# Altium footprint library 1_to_5_Pin.PcbLib: 133 footprints (part 9 of 9)
Each footprint in its own frame and in the unit in brackets; x right, y up, seen from the top. Pads: shape width x height; smd on the part's side, far side on the other; paste and mask are expansions set on the pad; w line width, h text height; cw(c..) or ccw(c..) is an arc to the next point about the centre after c.
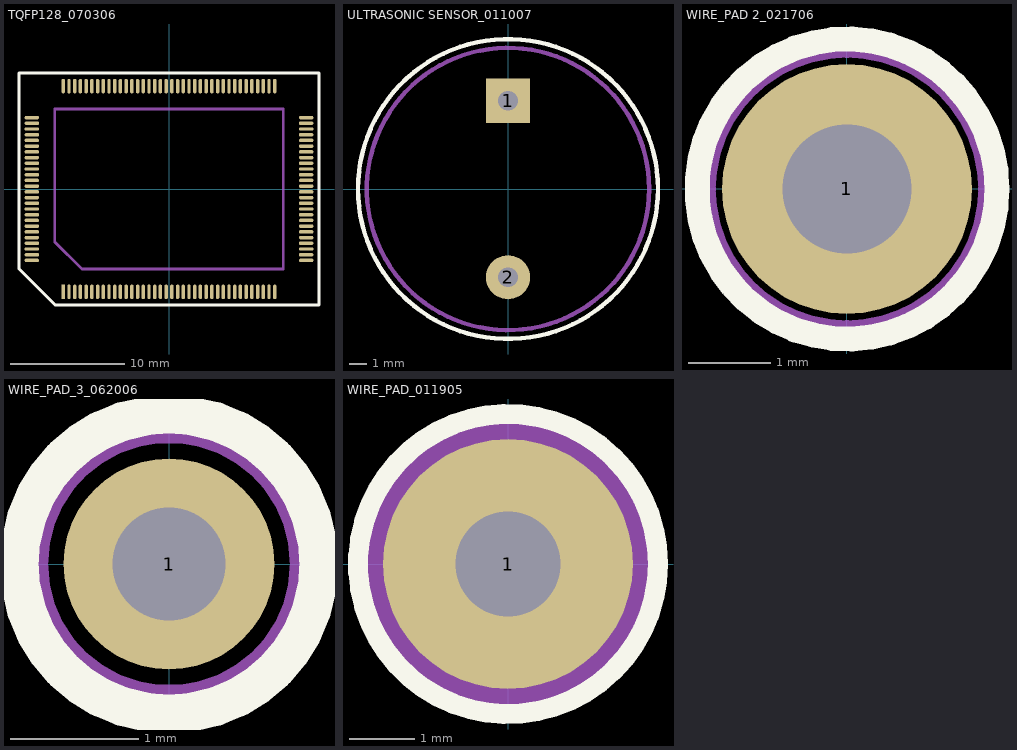
[diagram p8: the footprints below, top view; thin cyan lines are the x and y axes]

## TQFP128_070306 [mm] "SMT FP"
height 1.2
pads (128):
  rect 0.305x1.27 smd mask+0.038: 1(-9.25,-9)
  oval 0.305x1.27 smd mask+0.038: 2(-8.75,-9) 3(-8.25,-9) 4(-7.75,-9) 5(-7.25,-9) 6(-6.75,-9) 7(-6.25,-9) 8(-5.75,-9) 9(-5.25,-9) 10(-4.75,-9) 11(-4.25,-9) 12(-3.75,-9) 13(-3.25,-9) 14(-2.75,-9) 15(-2.25,-9) 16(-1.75,-9) 17(-1.25,-9) 18(-0.75,-9) 19(-0.25,-9) 20(0.25,-9) 21(0.75,-9) 22(1.25,-9) 23(1.75,-9) 24(2.25,-9) 25(2.75,-9) 26(3.25,-9) 27(3.75,-9) 28(4.25,-9) 29(4.75,-9) 30(5.25,-9) 31(5.75,-9) 32(6.25,-9) 33(6.75,-9) 34(7.25,-9) 35(7.75,-9) 36(8.25,-9) 37(8.75,-9) 38(9.25,-9) 65(9.25,9) 66(8.75,9) 67(8.25,9) 68(7.75,9) 69(7.25,9) 70(6.75,9) 71(6.25,9) 72(5.75,9) 73(5.25,9) 74(4.75,9) 75(4.25,9) 76(3.75,9) 77(3.25,9) 78(2.75,9) 79(2.25,9) 80(1.75,9) 81(1.25,9) 82(0.75,9) 83(0.25,9) 84(-0.25,9) 85(-0.75,9) 86(-1.25,9) 87(-1.75,9) 88(-2.25,9) 89(-2.75,9) 90(-3.25,9) 91(-3.75,9) 92(-4.25,9) 93(-4.75,9) 94(-5.25,9) 95(-5.75,9) 96(-6.25,9) 97(-6.75,9) 98(-7.25,9) 99(-7.75,9) 100(-8.25,9) 101(-8.75,9) 102(-9.25,9)
  oval 1.27x0.305 smd mask+0.038: 39(12,-6.25) 40(12,-5.75) 41(12,-5.25) 42(12,-4.75) 43(12,-4.25) 44(12,-3.75) 45(12,-3.25) 46(12,-2.75) 47(12,-2.25) 48(12,-1.75) 49(12,-1.25) 50(12,-0.75) 51(12,-0.25) 52(12,0.25) 53(12,0.75) 54(12,1.25) 55(12,1.75) 56(12,2.25) 57(12,2.75) 58(12,3.25) 59(12,3.75) 60(12,4.25) 61(12,4.75) 62(12,5.25) 63(12,5.75) 64(12,6.25) 103(-12,6.25) 104(-12,5.75) 105(-12,5.25) 106(-12,4.75) 107(-12,4.25) 108(-12,3.75) 109(-12,3.25) 110(-12,2.75) 111(-12,2.25) 112(-12,1.75) 113(-12,1.25) 114(-12,0.75) 115(-12,0.25) 116(-12,-0.25) 117(-12,-0.75) 118(-12,-1.25) 119(-12,-1.75) 120(-12,-2.25) 121(-12,-2.75) 122(-12,-3.25) 123(-12,-3.75) 124(-12,-4.25) 125(-12,-4.75) 126(-12,-5.25) 127(-12,-5.75) 128(-12,-6.25)
Top Overlay:
  lines w0.254: -13.125,-2.9 -13.125,-6.975 ; -13.125,-6.975 -13.125,0 -13.125,10.15 6.325,10.15 13.125,10.15 13.125,0 13.125,-10.15 -6.325,-10.15 -9.95,-10.15 -13.125,-6.975
Assembly Outline:
  lines w0.254: -10,-2.75 -10,-4.625 ; -10,-4.625 -10,0 -10,7 0,7 10,7 10,0 10,-7 0,-7 -7.625,-7 -10,-4.625
Assembly Designator:
  text ".Designator" at -0.925,-0.45 h1.02
Assembly Comment:
  text ".Comment" at -6.8,-2.175 h1.02

## ULTRASONIC SENSOR_011007 [mil] "TH"
height 125
pads (2):
  rect 100x100 hole 45: 1(0,200)
  round 100 hole 45: 2(0,-200)
Top Overlay:
  circle w10: c0,0 r340
Assembly Outline:
  circle w10: c0,0 r320
Assembly Designator:
  text ".Designator" at -65,10 h40
Assembly Comment:
  text ".Comment" at -95,-85 h40

## WIRE_PAD 2_021706 [mil] "FEATURE TH PCB"
pads (1):
  round 120 hole 62: 1(0,0)
Top Overlay:
  circle w12: c0,0 r72
Assembly Outline:
  circle w10: c0,0 r68

## WIRE_PAD_3_062006 [mil] "FEATURE TH PCB"
pads (1):
  round 65 hole 35: 1(0,0)
Top Overlay:
  circle w12: c0,0 r46.26
Assembly Outline:
  circle w10: c0,0 r42.33

## WIRE_PAD_011905 [mm] "FEATURE TH PCB"
pads (1):
  round 3.81 hole 1.6: 1(0,0)
Top Overlay:
  circle w0.305: c0,0 r2.286
Assembly Outline:
  circle w1.27: c0,0 r1.524